# Altium footprint library 255-416.PcbLib: 1 footprints
Each footprint in its own frame and in the unit in brackets; x right, y up, seen from the top. Pads: shape width x height; smd on the part's side, far side on the other; paste and mask are expansions set on the pad; w line width, h text height; cw(c..) or ccw(c..) is an arc to the next point about the centre after c.
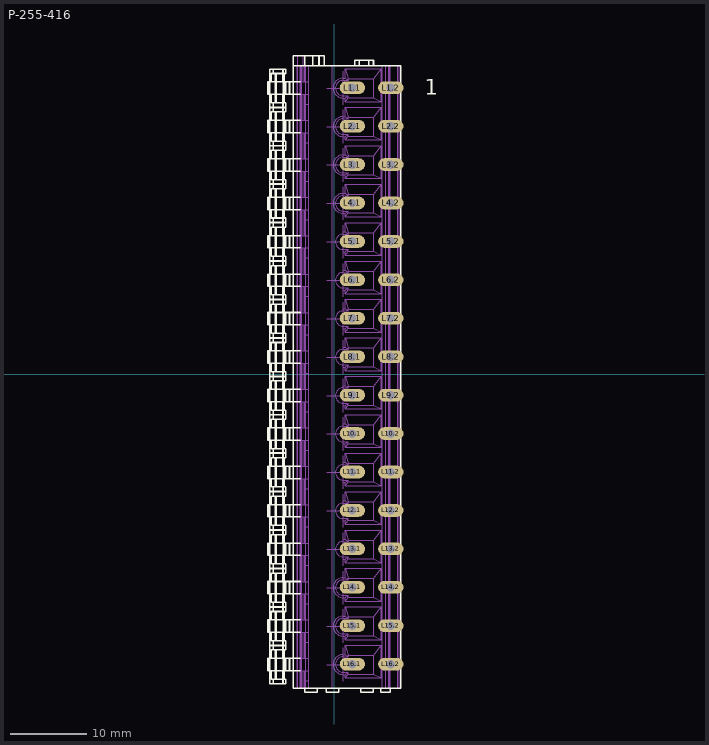
[diagram p0: the footprint, top view; thin cyan lines are the x and y axes]

## P-255-416 [mm]
pads (32):
  oval 3.3x1.65 hole 1.1: L1.1(2.359,37.25) L1.2(7.359,37.25) L2.1(2.359,32.25) L2.2(7.359,32.25) L3.1(2.359,27.25) L3.2(7.359,27.25) L4.1(2.359,22.25) L4.2(7.359,22.25) L5.1(2.359,17.25) L5.2(7.359,17.25) L6.1(2.359,12.25) L6.2(7.359,12.25) L7.1(2.359,7.25) L7.2(7.359,7.25) L8.1(2.359,2.25) L8.2(7.359,2.25) L9.1(2.359,-2.75) L9.2(7.359,-2.75) L10.1(2.359,-7.75) L10.2(7.359,-7.75) L11.1(2.359,-12.75) L11.2(7.359,-12.75) L12.1(2.359,-17.75) L12.2(7.359,-17.75) L13.1(2.359,-22.75) L13.2(7.359,-22.75) L14.1(2.359,-27.75) L14.2(7.359,-27.75) L15.1(2.359,-32.75) L15.2(7.359,-32.75) L16.1(2.359,-37.75) L16.2(7.359,-37.75)
Top Overlay:
  drawing of 765 lines, arcs and shapes, not listed
  text "1" at 11.799,36.33 h2
Mechanical 13:
  drawing of 835 lines, arcs and shapes, not listed